# EAGLE library part HE10 (library @Club_connectique)
Connecteur standard 2x5 broches pour nappe HE10 pour connecter : ICD2, CAN, ...
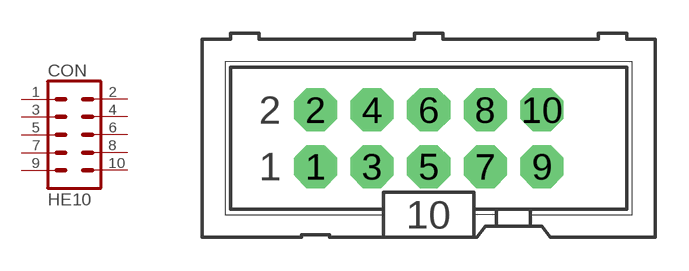
[diagram p0: symbol with the pads of HE10; footprint HE10]

Designator prefix CON

## HE10_VERT  [HE10]
1  P$1  pas
2  P$2  pas
3  P$3  pas
4  P$4  pas
5  P$5  pas
6  P$6  pas
7  P$7  pas
8  P$8  pas
9  P$9  pas
10  P$10  pas

## Footprint HE10 (pad centres in mm)
connecteur 10 voies percer en 1.0 mm centrage en 0.7mm
drill 0.7 pad 1.93 octagon: 1 -5.08,-1.27; 2 -5.08,1.27; 3 -2.54,-1.27; 4 -2.54,1.27; 5 0,-1.27; 6 0,1.27; 7 2.54,-1.27; 8 2.54,1.27; 9 5.08,-1.27; 10 5.08,1.27